# Altium footprint library WCAP-ATUL.PcbLib: 26 footprints (part 2 of 2)
Each footprint in its own frame and in the unit in brackets; x right, y up, seen from the top. Pads: shape width x height; smd on the part's side, far side on the other; paste and mask are expansions set on the pad; w line width, h text height; cw(c..) or ccw(c..) is an arc to the next point about the centre after c.
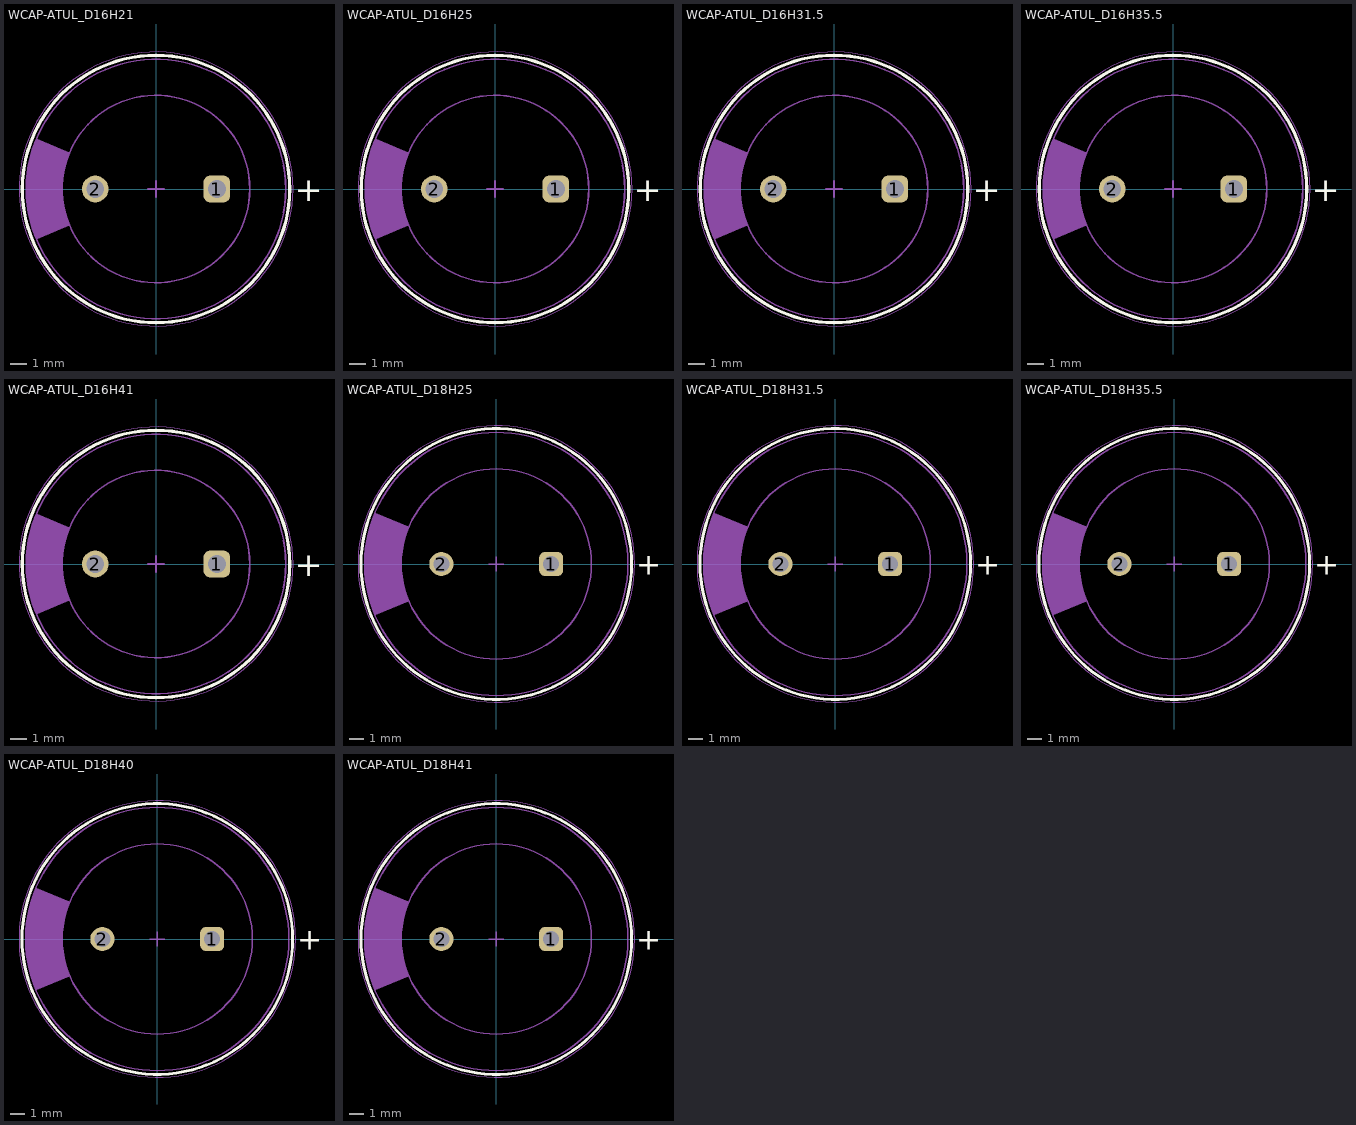
[diagram p1: the footprints below, top view; thin cyan lines are the x and y axes]

## WCAP-ATUL_D16H21 [mm] "Aluminum Electrolytic Capacitors, 16x21mm"
height 21
pads (2):
  rrect50% 1.65x1.65 hole 1.1: 1(3.75,0)
  round 1.65 hole 1.1: 2(-3.75,0)
Top Overlay:
  circle w0.2: c0,0 r8.25
  text "+" at 8.55,-0.75 h1.5
Top Assembly:
  circle w0.1: c0,0 r5.78
  circle w0.1: c0,0 r8
  region: -7.369,-3.114 -5.324,-2.25 -5.325,-2.248 -5.431,-1.979 -5.601,-1.428 -5.715,-0.863 -5.773,-0.288 -5.773,0.288 -5.715,0.863 -5.601,1.428 -5.431,1.979 -5.325,2.248 -5.324,2.25 -7.369,3.114 -7.525,2.745 -7.761,1.98 -7.92,1.196 -8,0.4 -8,-0.4 -7.92,-1.196 -7.761,-1.98 -7.525,-2.745
Top Designator:
  text ".Designator" at -3.647,-0.357 h1
Top 3D Body:
  circle w0.1: c0,0 r5.78
  circle w0.1: c0,0 r8
  region: -7.369,-3.114 -5.324,-2.25 -5.325,-2.248 -5.431,-1.979 -5.601,-1.428 -5.715,-0.863 -5.773,-0.288 -5.773,0.288 -5.715,0.863 -5.601,1.428 -5.431,1.979 -5.325,2.248 -5.324,2.25 -7.369,3.114 -7.525,2.745 -7.761,1.98 -7.92,1.196 -8,0.4 -8,-0.4 -7.92,-1.196 -7.761,-1.98 -7.525,-2.745
Top Courtyard:
  circle w0.05: c0,0 r8.45
Top Component Center:
  lines w0.1: -0.5,0 0.5,0 ; 0,-0.5 0,0.5
3D body "16x21x7.5x0.8.stp": height 21.31, standoff -19.91, extent -7.99,-8 8,8

## WCAP-ATUL_D16H25 [mm] "Aluminum Electrolytic Capacitors, 16x25mm"
height 25
pads (2):
  rrect50% 1.65x1.65 hole 1.1: 1(3.75,0)
  round 1.65 hole 1.1: 2(-3.75,0)
Top Overlay:
  circle w0.2: c0,0 r8.25
  text "+" at 8.55,-0.75 h1.5
Top Assembly:
  circle w0.1: c0,0 r5.78
  circle w0.1: c0,0 r8
  region: -7.369,-3.114 -5.324,-2.25 -5.325,-2.248 -5.431,-1.979 -5.601,-1.428 -5.715,-0.863 -5.773,-0.288 -5.773,0.288 -5.715,0.863 -5.601,1.428 -5.431,1.979 -5.325,2.248 -5.324,2.25 -7.369,3.114 -7.525,2.745 -7.761,1.98 -7.92,1.196 -8,0.4 -8,-0.4 -7.92,-1.196 -7.761,-1.98 -7.525,-2.745
Top Designator:
  text ".Designator" at -3.647,-0.357 h1
Top 3D Body:
  circle w0.1: c0,0 r5.78
  circle w0.1: c0,0 r8
  region: -7.369,-3.114 -5.324,-2.25 -5.325,-2.248 -5.431,-1.979 -5.601,-1.428 -5.715,-0.863 -5.773,-0.288 -5.773,0.288 -5.715,0.863 -5.601,1.428 -5.431,1.979 -5.325,2.248 -5.324,2.25 -7.369,3.114 -7.525,2.745 -7.761,1.98 -7.92,1.196 -8,0.4 -8,-0.4 -7.92,-1.196 -7.761,-1.98 -7.525,-2.745
Top Courtyard:
  circle w0.05: c0,0 r8.45
Top Component Center:
  lines w0.1: -0.5,0 0.5,0 ; 0,-0.5 0,0.5
3D body "16x25x7.5x0.8.stp": height 25.31, standoff -19.91, extent -7.99,-8 8,7.999

## WCAP-ATUL_D16H31.5 [mm] "Aluminum Electrolytic Capacitors, 16x31.5mm"
height 31.5
pads (2):
  rrect50% 1.65x1.65 hole 1.1: 1(3.75,0)
  round 1.65 hole 1.1: 2(-3.75,0)
Top Overlay:
  circle w0.2: c0,0 r8.25
  text "+" at 8.55,-0.75 h1.5
Top Assembly:
  circle w0.1: c0,0 r8
  circle w0.1: c0,0 r5.78
  region: -7.369,-3.114 -5.324,-2.25 -5.325,-2.248 -5.431,-1.979 -5.601,-1.428 -5.715,-0.863 -5.773,-0.288 -5.773,0.288 -5.715,0.863 -5.601,1.428 -5.431,1.979 -5.325,2.248 -5.324,2.25 -7.369,3.114 -7.525,2.745 -7.761,1.98 -7.92,1.196 -8,0.4 -8,-0.4 -7.92,-1.196 -7.761,-1.98 -7.525,-2.745
Top Designator:
  text ".Designator" at -3.647,-0.357 h1
Top 3D Body:
  circle w0.1: c0,0 r8
  circle w0.1: c0,0 r5.78
  region: -7.369,-3.114 -5.324,-2.25 -5.325,-2.248 -5.431,-1.979 -5.601,-1.428 -5.715,-0.863 -5.773,-0.288 -5.773,0.288 -5.715,0.863 -5.601,1.428 -5.431,1.979 -5.325,2.248 -5.324,2.25 -7.369,3.114 -7.525,2.745 -7.761,1.98 -7.92,1.196 -8,0.4 -8,-0.4 -7.92,-1.196 -7.761,-1.98 -7.525,-2.745
Top Courtyard:
  circle w0.05: c0,0 r8.45
Top Component Center:
  lines w0.1: -0.5,0 0.5,0 ; 0,-0.5 0,0.5
3D body "16x31.5x7.5x0.8.stp": height 31.81, standoff -19.91, extent -7.99,-7.997 8,7.998

## WCAP-ATUL_D16H35.5 [mm] "Aluminum Electrolytic Capacitors, 16x35.5mm"
height 35.5
pads (2):
  rrect50% 1.65x1.65 hole 1.1: 1(3.75,0)
  round 1.65 hole 1.1: 2(-3.75,0)
Top Overlay:
  circle w0.2: c0,0 r8.25
  text "+" at 8.55,-0.75 h1.5
Top Assembly:
  circle w0.1: c0,0 r5.78
  circle w0.1: c0,0 r8
  region: -7.369,-3.114 -5.324,-2.25 -5.325,-2.248 -5.431,-1.979 -5.601,-1.428 -5.715,-0.863 -5.773,-0.288 -5.773,0.288 -5.715,0.863 -5.601,1.428 -5.431,1.979 -5.325,2.248 -5.324,2.25 -7.369,3.114 -7.525,2.745 -7.761,1.98 -7.92,1.196 -8,0.4 -8,-0.4 -7.92,-1.196 -7.761,-1.98 -7.525,-2.745
Top Designator:
  text ".Designator" at -3.647,-0.357 h1
Top 3D Body:
  circle w0.1: c0,0 r5.78
  circle w0.1: c0,0 r8
  region: -7.369,-3.114 -5.324,-2.25 -5.325,-2.248 -5.431,-1.979 -5.601,-1.428 -5.715,-0.863 -5.773,-0.288 -5.773,0.288 -5.715,0.863 -5.601,1.428 -5.431,1.979 -5.325,2.248 -5.324,2.25 -7.369,3.114 -7.525,2.745 -7.761,1.98 -7.92,1.196 -8,0.4 -8,-0.4 -7.92,-1.196 -7.761,-1.98 -7.525,-2.745
Top Courtyard:
  circle w0.05: c0,0 r8.45
Top Component Center:
  lines w0.1: -0.5,0 0.5,0 ; 0,-0.5 0,0.5
3D body "16x35.5x7.5x0.8.stp": height 35.81, standoff -19.91, extent -7.99,-7.999 8,7.999

## WCAP-ATUL_D16H41 [mm] "Aluminum Electrolytic Capacitors, 16x41mm"
height 41
pads (2):
  rrect50% 1.65x1.65 hole 1.1: 1(3.75,0)
  round 1.65 hole 1.1: 2(-3.75,0)
Top Overlay:
  circle w0.2: c0,0 r8.25
  text "+" at 8.55,-0.75 h1.5
Top Assembly:
  circle w0.1: c0,0 r8
  circle w0.1: c0,0 r5.78
  region: -7.369,-3.114 -5.324,-2.25 -5.325,-2.248 -5.431,-1.979 -5.601,-1.428 -5.715,-0.863 -5.773,-0.288 -5.773,0.288 -5.715,0.863 -5.601,1.428 -5.431,1.979 -5.325,2.248 -5.324,2.25 -7.369,3.114 -7.525,2.745 -7.761,1.98 -7.92,1.196 -8,0.4 -8,-0.4 -7.92,-1.196 -7.761,-1.98 -7.525,-2.745
Top Designator:
  text ".Designator" at -3.647,-0.357 h1
Top 3D Body:
  circle w0.1: c0,0 r8
  circle w0.1: c0,0 r5.78
  region: -7.369,-3.114 -5.324,-2.25 -5.325,-2.248 -5.431,-1.979 -5.601,-1.428 -5.715,-0.863 -5.773,-0.288 -5.773,0.288 -5.715,0.863 -5.601,1.428 -5.431,1.979 -5.325,2.248 -5.324,2.25 -7.369,3.114 -7.525,2.745 -7.761,1.98 -7.92,1.196 -8,0.4 -8,-0.4 -7.92,-1.196 -7.761,-1.98 -7.525,-2.745
Top Courtyard:
  circle w0.05: c0,0 r8.45
Top Component Center:
  lines w0.1: -0.5,0 0.5,0 ; 0,-0.5 0,0.5
3D body "16x41x7.5x0.8.stp": height 41.31, standoff -19.91, extent -7.99,-8 8,7.995

## WCAP-ATUL_D18H25 [mm] "Aluminum Electrolytic Capacitors, 18x25mm"
height 25
pads (2):
  rrect50% 1.65x1.65 hole 1.1: 1(3.75,0)
  round 1.65 hole 1.1: 2(-3.75,0)
Top Overlay:
  circle w0.2: c0,0 r9.25
  text "+" at 9.55,-0.75 h1.5
Top Assembly:
  circle w0.1: c0,0 r9
  circle w0.1: c0,0 r6.5
  region: -8.291,-3.501 -5.985,-2.536 -5.986,-2.533 -6.105,-2.23 -6.298,-1.609 -6.427,-0.972 -6.492,-0.325 -6.492,0.325 -6.427,0.972 -6.298,1.609 -6.105,2.23 -5.986,2.533 -5.985,2.536 -8.291,3.501 -8.466,3.086 -8.732,2.227 -8.91,1.345 -9,0.45 -9,-0.45 -8.91,-1.345 -8.732,-2.227 -8.466,-3.086
Top Designator:
  text ".Designator" at -3.647,-0.357 h1
Top 3D Body:
  circle w0.1: c0,0 r9
  circle w0.1: c0,0 r6.5
  region: -8.291,-3.501 -5.985,-2.536 -5.986,-2.533 -6.105,-2.23 -6.298,-1.609 -6.427,-0.972 -6.492,-0.325 -6.492,0.325 -6.427,0.972 -6.298,1.609 -6.105,2.23 -5.986,2.533 -5.985,2.536 -8.291,3.501 -8.466,3.086 -8.732,2.227 -8.91,1.345 -9,0.45 -9,-0.45 -8.91,-1.345 -8.732,-2.227 -8.466,-3.086
Top Courtyard:
  circle w0.05: c0,0 r9.45
Top Component Center:
  lines w0.1: -0.5,0 0.5,0 ; 0,-0.5 0,0.5
3D body "18x25x7.5x0.8.stp": height 25.31, standoff -19.91, extent -8.99,-9 9,9

## WCAP-ATUL_D18H31.5 [mm] "Aluminum Electrolytic Capacitors, 18x31.5mm"
height 31.5
pads (2):
  rrect50% 1.65x1.65 hole 1.1: 1(3.75,0)
  round 1.65 hole 1.1: 2(-3.75,0)
Top Overlay:
  circle w0.2: c0,0 r9.25
  text "+" at 9.55,-0.75 h1.5
Top Assembly:
  circle w0.1: c0,0 r6.5
  circle w0.1: c0,0 r9
  region: -8.291,-3.501 -5.985,-2.536 -5.986,-2.533 -6.105,-2.23 -6.298,-1.609 -6.427,-0.972 -6.492,-0.325 -6.492,0.325 -6.427,0.972 -6.298,1.609 -6.105,2.23 -5.986,2.533 -5.985,2.536 -8.291,3.501 -8.466,3.086 -8.732,2.227 -8.91,1.345 -9,0.45 -9,-0.45 -8.91,-1.345 -8.732,-2.227 -8.466,-3.086
Top Designator:
  text ".Designator" at -3.647,-0.357 h1
Top 3D Body:
  circle w0.1: c0,0 r6.5
  circle w0.1: c0,0 r9
  region: -8.291,-3.501 -5.985,-2.536 -5.986,-2.533 -6.105,-2.23 -6.298,-1.609 -6.427,-0.972 -6.492,-0.325 -6.492,0.325 -6.427,0.972 -6.298,1.609 -6.105,2.23 -5.986,2.533 -5.985,2.536 -8.291,3.501 -8.466,3.086 -8.732,2.227 -8.91,1.345 -9,0.45 -9,-0.45 -8.91,-1.345 -8.732,-2.227 -8.466,-3.086
Top Courtyard:
  circle w0.05: c0,0 r9.45
Top Component Center:
  lines w0.1: -0.5,0 0.5,0 ; 0,-0.5 0,0.5
3D body "18x31.5x7.5x0.8.stp": height 31.81, standoff -19.94, extent -8.99,-9 9,9

## WCAP-ATUL_D18H35.5 [mm] "Aluminum Electrolytic Capacitors, 18x35.5mm"
height 35.5
pads (2):
  rrect50% 1.65x1.65 hole 1.1: 1(3.75,0)
  round 1.65 hole 1.1: 2(-3.75,0)
Top Overlay:
  circle w0.2: c0,0 r9.25
  text "+" at 9.55,-0.75 h1.5
Top Assembly:
  circle w0.1: c0,0 r9
  circle w0.1: c0,0 r6.5
  region: -8.291,-3.501 -5.985,-2.536 -5.986,-2.533 -6.105,-2.23 -6.298,-1.609 -6.427,-0.972 -6.492,-0.325 -6.492,0.325 -6.427,0.972 -6.298,1.609 -6.105,2.23 -5.986,2.533 -5.985,2.536 -8.291,3.501 -8.466,3.086 -8.732,2.227 -8.91,1.345 -9,0.45 -9,-0.45 -8.91,-1.345 -8.732,-2.227 -8.466,-3.086
Top Designator:
  text ".Designator" at -3.647,-0.357 h1
Top 3D Body:
  circle w0.1: c0,0 r9
  circle w0.1: c0,0 r6.5
  region: -8.291,-3.501 -5.985,-2.536 -5.986,-2.533 -6.105,-2.23 -6.298,-1.609 -6.427,-0.972 -6.492,-0.325 -6.492,0.325 -6.427,0.972 -6.298,1.609 -6.105,2.23 -5.986,2.533 -5.985,2.536 -8.291,3.501 -8.466,3.086 -8.732,2.227 -8.91,1.345 -9,0.45 -9,-0.45 -8.91,-1.345 -8.732,-2.227 -8.466,-3.086
Top Courtyard:
  circle w0.05: c0,0 r9.45
Top Component Center:
  lines w0.1: -0.5,0 0.5,0 ; 0,-0.5 0,0.5
3D body "18x35.5x7.5x0.8.stp": height 35.81, standoff -19.91, extent -8.99,-8.997 9,8.997

## WCAP-ATUL_D18H40 [mm] "Aluminum Electrolytic Capacitors, 18x40mm"
height 40
pads (2):
  rrect50% 1.65x1.65 hole 1.1: 1(3.75,0)
  round 1.65 hole 1.1: 2(-3.75,0)
Top Overlay:
  circle w0.2: c0,0 r9.25
  text "+" at 9.55,-0.75 h1.5
Top Assembly:
  circle w0.1: c0,0 r9
  circle w0.1: c0,0 r6.5
  region: -8.291,-3.501 -5.985,-2.536 -5.986,-2.533 -6.105,-2.23 -6.298,-1.609 -6.427,-0.972 -6.492,-0.325 -6.492,0.325 -6.427,0.972 -6.298,1.609 -6.105,2.23 -5.986,2.533 -5.985,2.536 -8.291,3.501 -8.466,3.086 -8.732,2.227 -8.91,1.345 -9,0.45 -9,-0.45 -8.91,-1.345 -8.732,-2.227 -8.466,-3.086
Top Designator:
  text ".Designator" at -3.647,-0.357 h1
Top 3D Body:
  circle w0.1: c0,0 r9
  circle w0.1: c0,0 r6.5
  region: -8.291,-3.501 -5.985,-2.536 -5.986,-2.533 -6.105,-2.23 -6.298,-1.609 -6.427,-0.972 -6.492,-0.325 -6.492,0.325 -6.427,0.972 -6.298,1.609 -6.105,2.23 -5.986,2.533 -5.985,2.536 -8.291,3.501 -8.466,3.086 -8.732,2.227 -8.91,1.345 -9,0.45 -9,-0.45 -8.91,-1.345 -8.732,-2.227 -8.466,-3.086
Top Courtyard:
  circle w0.05: c0,0 r9.45
Top Component Center:
  lines w0.1: -0.5,0 0.5,0 ; 0,-0.5 0,0.5
3D body "18x40x7.5x0.8.stp": height 40.09, standoff -19.91, extent -8.99,-9 9,8.998

## WCAP-ATUL_D18H41 [mm] "Aluminum Electrolytic Capacitors, 18x41mm"
height 41
pads (2):
  rrect50% 1.65x1.65 hole 1.1: 1(3.75,0)
  round 1.65 hole 1.1: 2(-3.75,0)
Top Overlay:
  circle w0.2: c0,0 r9.25
  text "+" at 9.55,-0.75 h1.5
Top Assembly:
  circle w0.1: c0,0 r6.5
  circle w0.1: c0,0 r9
  region: -8.291,-3.501 -5.985,-2.536 -5.986,-2.533 -6.105,-2.23 -6.298,-1.609 -6.427,-0.972 -6.492,-0.325 -6.492,0.325 -6.427,0.972 -6.298,1.609 -6.105,2.23 -5.986,2.533 -5.985,2.536 -8.291,3.501 -8.466,3.086 -8.732,2.227 -8.91,1.345 -9,0.45 -9,-0.45 -8.91,-1.345 -8.732,-2.227 -8.466,-3.086
Top Designator:
  text ".Designator" at -3.647,-0.357 h1
Top 3D Body:
  circle w0.1: c0,0 r6.5
  circle w0.1: c0,0 r9
  region: -8.291,-3.501 -5.985,-2.536 -5.986,-2.533 -6.105,-2.23 -6.298,-1.609 -6.427,-0.972 -6.492,-0.325 -6.492,0.325 -6.427,0.972 -6.298,1.609 -6.105,2.23 -5.986,2.533 -5.985,2.536 -8.291,3.501 -8.466,3.086 -8.732,2.227 -8.91,1.345 -9,0.45 -9,-0.45 -8.91,-1.345 -8.732,-2.227 -8.466,-3.086
Top Courtyard:
  circle w0.05: c0,0 r9.45
Top Component Center:
  lines w0.1: -0.5,0 0.5,0 ; 0,-0.5 0,0.5
3D body "18x41x7.5x0.8.stp": height 41.31, standoff -19.91, extent -8.99,-9 9,8.999